# Altium schematic symbol library port4.SchLib: 1 symbol
Pins are listed as number, name and electrical type; pins without a type are passive.

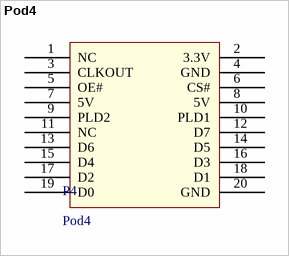
[diagram p0: symbol Pod4]

## Pod4
designator P4
footprint Pin Header 20x2
pins: 1 NC, 2 3.3V, 3 CLKOUT, 4 GND, 5 OE#, 6 CS#, 7 5V, 8 5V, 9 PLD2, 10 PLD1, 11 NC, 12 D7, 13 D6, 14 D5, 15 D4, 16 D3, 17 D2, 18 D1, 19 D0, 20 GND